# EAGLE library part AE4575H-567 (library saw-filters-narrowband)
ЦПАР.433561.75-18 Параметр Ед. изм. Нижняя частота Тип. значение Верхняя частота Центральная частота МГц - 567 - Минимальное вносимое затухание дБ - Не более 3 - Частота среза по уровню -2 дБ МГц Не более 563.1 - Не менее 570.9 Частота среза по уровню -40 дБ МГц Не менее 536 - Не более 600 Неравномерность АЧХ дБ - Не более 2 - Групповое время задержки нс - - - Гарантированное затухание дБ - 40 - Температурный диапазон °C -55 22 +85 Материал подложки - - Танталат лития 36 -
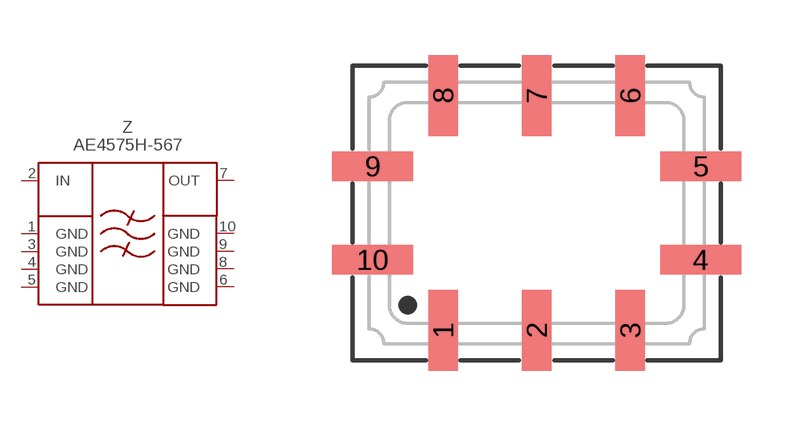
[diagram p176: symbol with the pads of QCC10-1; footprint QCC10-1]

Designator prefix Z

## AE4575H-567  [QCC10-1]
1  GND  pwr
2  IN  in
3  GND  pwr
4  GND  pwr
5  GND  pwr
6  GND  pwr
7  OUT  out
8  GND  pwr
9  GND  pwr
10  GND  pwr

## Footprint QCC10-1 (pad centres in mm)
smd 0.8 x 2.2: 1 -2.54,-3.185; 2 0,-3.185; 3 2.54,-3.185; 6 2.54,3.185; 7 0,3.185; 8 -2.54,3.185
smd 2.2 x 0.8: 4 4.455,-1.27; 5 4.455,1.27; 9 -4.455,1.27; 10 -4.455,-1.27